# Altium footprint library PCB - LEADLESS - QFN - ST QFN-8 3x3.PCBLIB: 1 footprints
Each footprint in its own frame and in the unit in brackets; x right, y up, seen from the top. Pads: shape width x height; smd on the part's side, far side on the other; paste and mask are expansions set on the pad; w line width, h text height; cw(c..) or ccw(c..) is an arc to the next point about the centre after c.
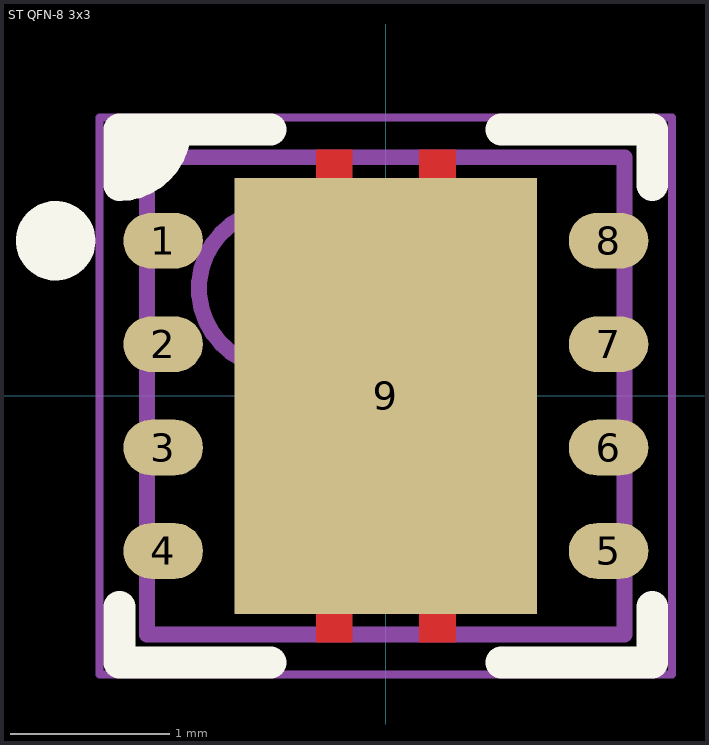
[diagram p0: the footprint, top view; thin cyan lines are the x and y axes]

## ST QFN-8 3x3 [mm] "QFN, 8-Leads, Body 3.00x3.00mm, Pitch 0.65mm, Thermal Pad 2.64x1.90mm, IPC Medium Density"
height 1
pads (9):
  oval 0.5x0.35 smd: 1(-1.4,0.975) 2(-1.4,0.325) 3(-1.4,-0.325) 4(-1.4,-0.975) 5(1.4,-0.975) 6(1.4,-0.325) 7(1.4,0.325) 8(1.4,0.975)
  rect 1.9x2.74 smd: 9(0,0)
Top Layer:
  region: 0.44,-1.35 0.21,-1.35 0.21,-1.55 0.44,-1.55
  rectangle: -0.44,-1.55 -0.21,-1.35
  region: 0.44,1.55 0.21,1.55 0.21,1.35 0.44,1.35
  rectangle: -0.44,1.35 -0.21,1.55
Top Overlay:
  circle w0.25: c-2.075,0.975 r0.125
  region: -1.255,1.725 -1.745,1.725 -1.745,1.35 -1.37,1.35
  lines w0.2: -1.675,-1.325 -1.675,-1.675 -0.725,-1.675 ; -1.325,1.675 cw(c-1.675,1.675) -1.675,1.325 -1.675,1.675 -0.725,1.675 ; 0.725,-1.675 1.675,-1.675 1.675,-1.325 ; 0.725,1.675 1.675,1.675 1.675,1.325
Mechanical 13:
  circle w0.1: c-0.675,0.675 r0.5
  lines w0.1: -1.5,-1.5 -1.5,1.5 1.5,1.5 1.5,-1.5 -1.5,-1.5
Mechanical 15:
  lines w0.05: -1.8,-1.75 1.8,-1.75 1.8,1.75 -1.8,1.75 -1.8,-1.75
  lines w0.1: -0.5,0 0.5,0 ; 0,-0.5 0,0.5
3D body: height 1, standoff 0, extent -1.5,-1.5 1.5,1.5